# Altium schematic symbol library Power Controllers.SchLib: 19 symbols
Pins are listed as number, name and electrical type; pins without a type are passive.

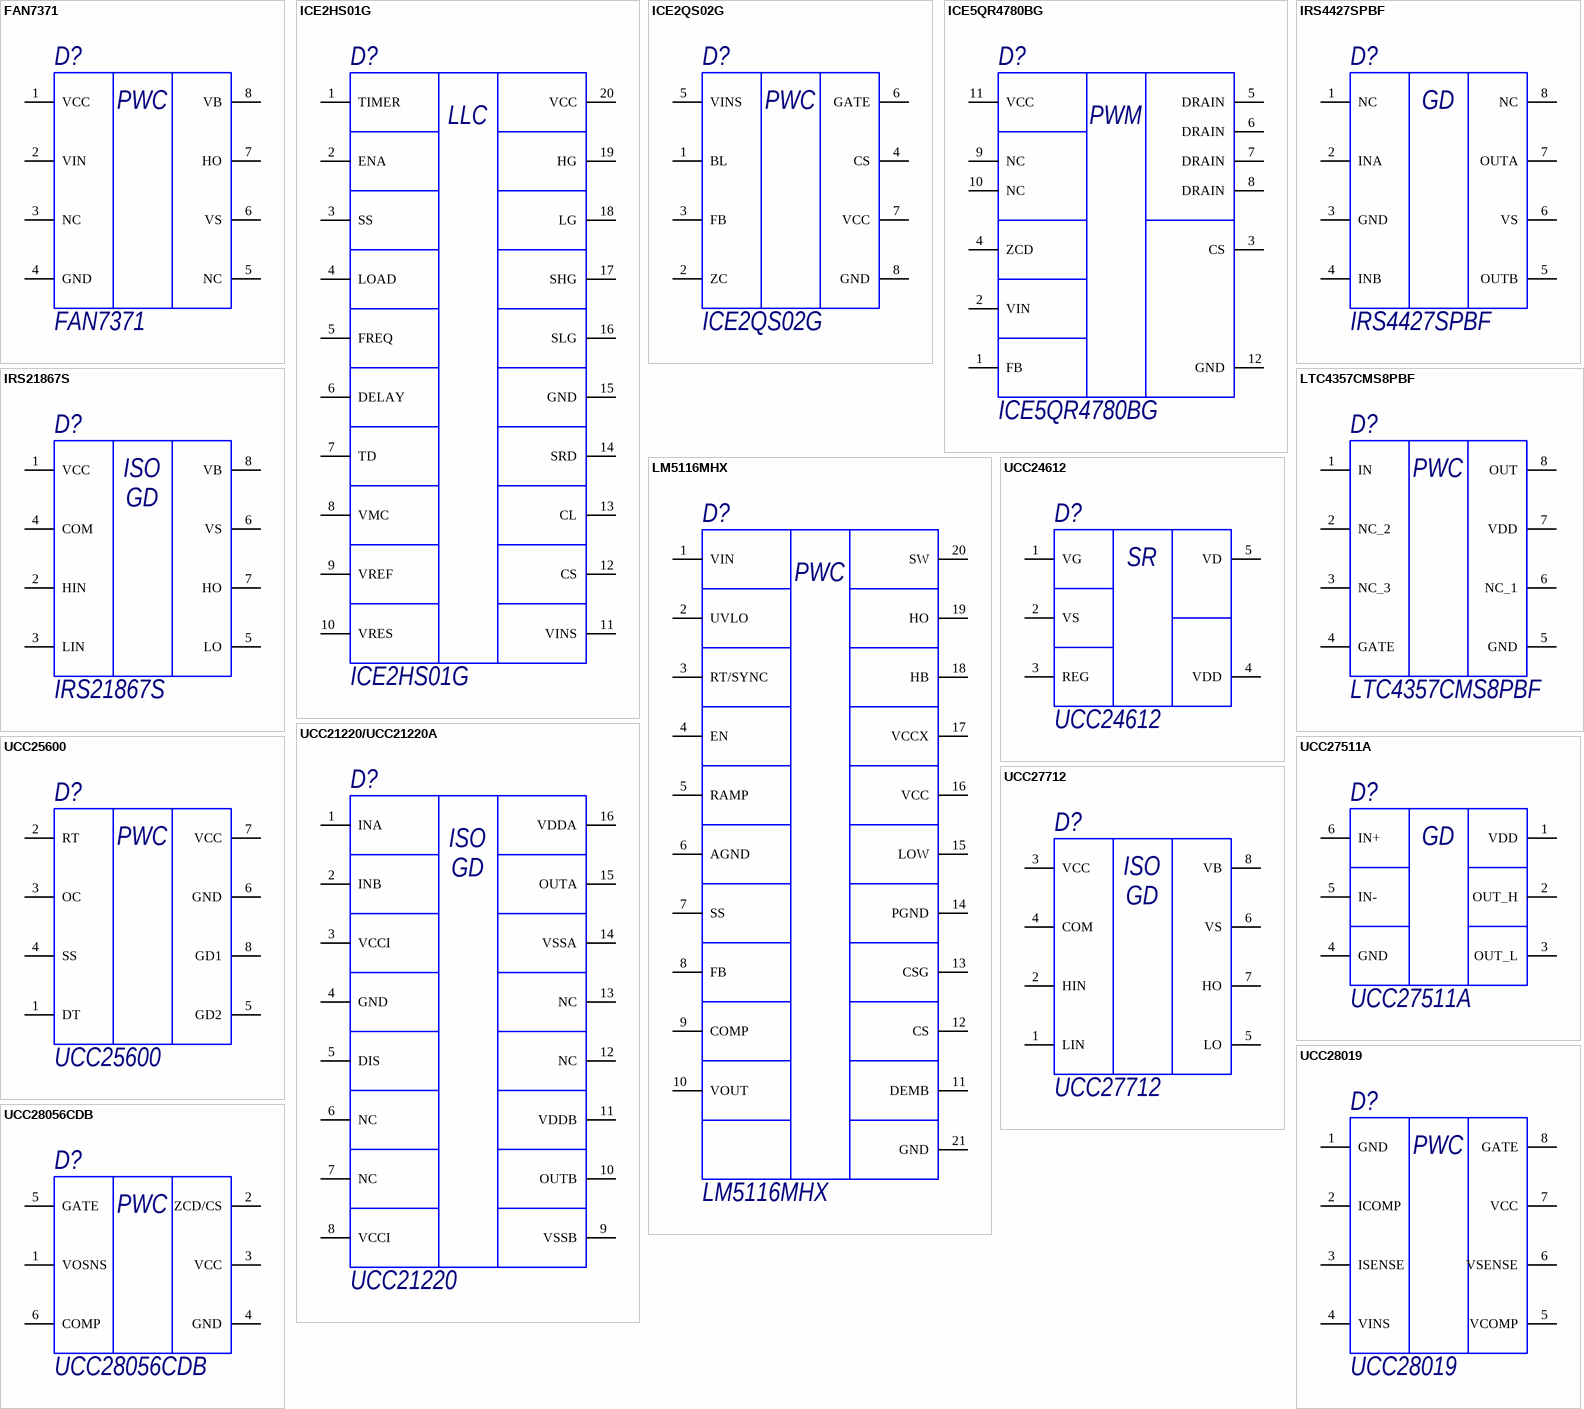
[diagram p0: symbols FAN7371 to UCC28056CDB]

## FAN7371
designator D?
Микросхема полумостовой драйвер; ComponentTypе: Микросхема контроллер PWM; ComponentDescription: =ComponentTypе+', '+Comment+', '+Package
footprint 8-SOIC (SOIC, 8-Leads, Body 4,90x3,90mm, Pitch 1,27mm, IPC Medium Density)
pins: 1 VCC, 2 VIN, 3 NC, 4 GND, 5 NC, 6 VS, 7 HO, 8 VB
text: PWC

## ICE2HS01G
designator D?
Микросхема контроллер LLC. High Performance Resonant Mode Controller / for Half-bridge LLC Resonant Converter.; ComponentDescription: =ComponentTypе+', '+Comment+', '+Package; ComponentTypе: Микросхема контроллер LLC
footprint SOIC127P1030X265-20N
pins: 1 TIMER, 2 ENA, 3 SS, 4 LOAD, 5 FREQ, 6 DELAY, 7 TD, 8 VMC, 9 VREF, 10 VRES, 11 VINS, 12 CS, 13 CL, 14 SRD, 15 GND, 16 SLG, 17 SHG, 18 LG, 19 HG, 20 VCC
1 alternate drawing of the same symbol
text: LLC

## ICE2QS02G
designator D?
Микросхема контроллер PWM; ComponentDescription: =ComponentTypе+', '+Comment+', '+Package; ComponentTypе: Микросхема контроллер PWM
footprint 8-SOIC (SOIC, 8-Leads, Body 4,90x3,90mm, Pitch 1,27mm, IPC Medium Density)
pins: 1 BL, 2 ZC, 3 FB, 4 CS, 5 VINS, 6 GATE, 7 VCC, 8 GND
text: PWC

## ICE5QR4780BG
designator D?
Микросхема контроллер PWM; ComponentTypе: Микросхема контроллер LLC; ComponentDescription: =ComponentTypе+', '+Comment+', '+Package
footprint ICE5QR0680AG (SOIC, 12-Leads, ICE5QR0680AG)
pins: 1 FB, 2 VIN, 3 CS, 4 ZCD, 5 DRAIN, 6 DRAIN, 7 DRAIN, 8 DRAIN, 9 NC, 10 NC, 11 VCC, 12 GND
text: PWM

## IRS4427SPBF
designator D?
Микросхема сдвоенный драйвер нижнего уровня; ComponentTypе: Микросхема контроллер PWM; ComponentDescription: =ComponentTypе+', '+Comment+', '+Package
footprint 8-SOIC (SOIC, 8-Leads, Body 4,90x3,90mm, Pitch 1,27mm, IPC Medium Density)
pins: 1 NC, 2 INA, 3 GND, 4 INB, 5 OUTB, 6 VS, 7 OUTA, 8 NC
text: GD

## IRS21867S
designator D?
Микросхема полумостовой драйвер; ComponentTypе: Микросхема контроллер PWM; ComponentDescription: =ComponentTypе+', '+Comment+', '+Package
footprint 8-SOIC (SOIC, 8-Leads, Body 4,90x3,90mm, Pitch 1,27mm, IPC Medium Density)
pins: 1 VCC, 2 HIN, 3 LIN, 4 COM, 5 LO, 6 VS, 7 HO, 8 VB
text: ISO; GD

## LM5116MHX
designator D?
Микросхема контроллер синхронного понижающего преобразователя.; ComponentTypе: Микросхема изолированный драйвер затвора; ComponentDescription: =ComponentTypе+', '+Comment+', '+Package
footprint HTSSOP-20
pins: 1 VIN, 2 UVLO, 3 RT/SYNC, 4 EN, 5 RAMP, 6 AGND, 7 SS, 8 FB, 9 COMP, 10 VOUT, 11 DEMB, 12 CS, 13 CSG, 14 PGND, 15 LOW, 16 VCC, 17 VCCX, 18 HB, 19 HO, 20 SW, 21 GND
text: PWC

## LTC4357CMS8PBF
designator D?
Микросхема контроллер "идеального диода"; ComponentDescription: =ComponentTypе+', '+Comment+', '+Package; ComponentTypе: Микросхема контроллер "идеального диода"
footprint MSOP-8_MS
pins: 1 IN, 2 NC_2, 3 NC_3, 4 GATE, 5 GND, 6 NC_1, 7 VDD, 8 OUT
text: PWC

## UCC21220/UCC21220A
designator D?, comment UCC21220
Микросхема изолированный драйвер затвора. UCC21220, UCC21220A 4-A/6-A, Dual-Channel Basic and Functional Isolated Gate Driver / With High Noise Immunity; ComponentDescription: =ComponentTypе+', '+Comment+', '+Package; ComponentTypе: Микросхема изолированный драйвер затвора
footprint 16-SOIC (SOIC, 16-Leads, Body 9,90x3,90mm, Pitch 1,27mm, IPC Medium Density)
pins: 1 INA, 2 INB, 3 VCCI, 4 GND, 5 DIS, 6 NC, 7 NC, 8 VCCI, 9 VSSB, 10 OUTB, 11 VDDB, 12 NC, 13 NC, 14 VSSA, 15 OUTA, 16 VDDA
text: ISO; GD

## UCC24612
designator D?
Микросхема контроллер синхронного выпрямителя; ComponentDescription: =ComponentTypе+', '+Comment+', '+Package; ComponentTypе: Микросхема контроллер синхронного выпрямителя
footprint SOT-23-5 (SOT23, 5-Leads, Body 2,90x2,30mm, Pitch 0,95mm, IPC Medium Density)
pins: 1 VG, 2 VS, 3 REG, 4 VDD, 5 VD
text: SR

## UCC25600
designator D?
Микросхема контроллер LLC; ComponentTypе: Микросхема контроллер PWM; ComponentDescription: =ComponentTypе+', '+Comment+', '+Package
footprint 8-SOIC (SOIC, 8-Leads, Body 4,90x3,90mm, Pitch 1,27mm, IPC Medium Density)
pins: 1 DT, 2 RT, 3 OC, 4 SS, 5 GD2, 6 GND, 7 VCC, 8 GD1
text: PWC

## UCC27511A
designator D?
Микросхема драйвер затвора. UCC27511A Single-Channel High-Speed Low-Side Gate Driver / With 4-A Peak Source and 8-A Peak Sink; ComponentDescription: =ComponentTypе+', '+Comment+', '+Package; ComponentTypе: Микросхема драйвер затвора
footprint SOT-23-6 (SOT23, 6-Leads, Body 2,90x2,30mm, Pitch 0,95mm, IPC Medium Density)
pins: 1 VDD, 2 OUT_H, 3 OUT_L, 4 GND, 5 IN-, 6 IN+
text: GD

## UCC27712
designator D?
Микросхема полумостовой драйвер; ComponentTypе: Микросхема контроллер PWM; ComponentDescription: =ComponentTypе+', '+Comment+', '+Package
footprint 8-SOIC (SOIC, 8-Leads, Body 4,90x3,90mm, Pitch 1,27mm, IPC Medium Density)
pins: 1 LIN, 2 HIN, 3 VCC, 4 COM, 5 LO, 6 VS, 7 HO, 8 VB
text: ISO; GD

## UCC28019
designator D?
Микросхема контроллер PFC; ComponentDescription: =ComponentTypе+', '+Comment+', '+Package; ComponentTypе: Микросхема контроллер PFC
footprint 8-SOIC (SOIC, 8-Leads, Body 4,90x3,90mm, Pitch 1,27mm, IPC Medium Density)
pins: 1 GND, 2 ICOMP, 3 ISENSE, 4 VINS, 5 VCOMP, 6 VSENSE, 7 VCC, 8 GATE
text: PWC

## UCC28056CDB
designator D?
Микросхема контроллер PWM; ComponentDescription: =ComponentTypе+', '+Comment+', '+Package; ComponentTypе: Микросхема контроллер PWM
footprint SOT-23-6 (SOT23, 6-Leads, Body 2,90x2,30mm, Pitch 0,95mm, IPC Medium Density)
pins: 1 VOSNS, 2 ZCD/CS, 3 VCC, 4 GND, 5 GATE, 6 COMP
text: PWC

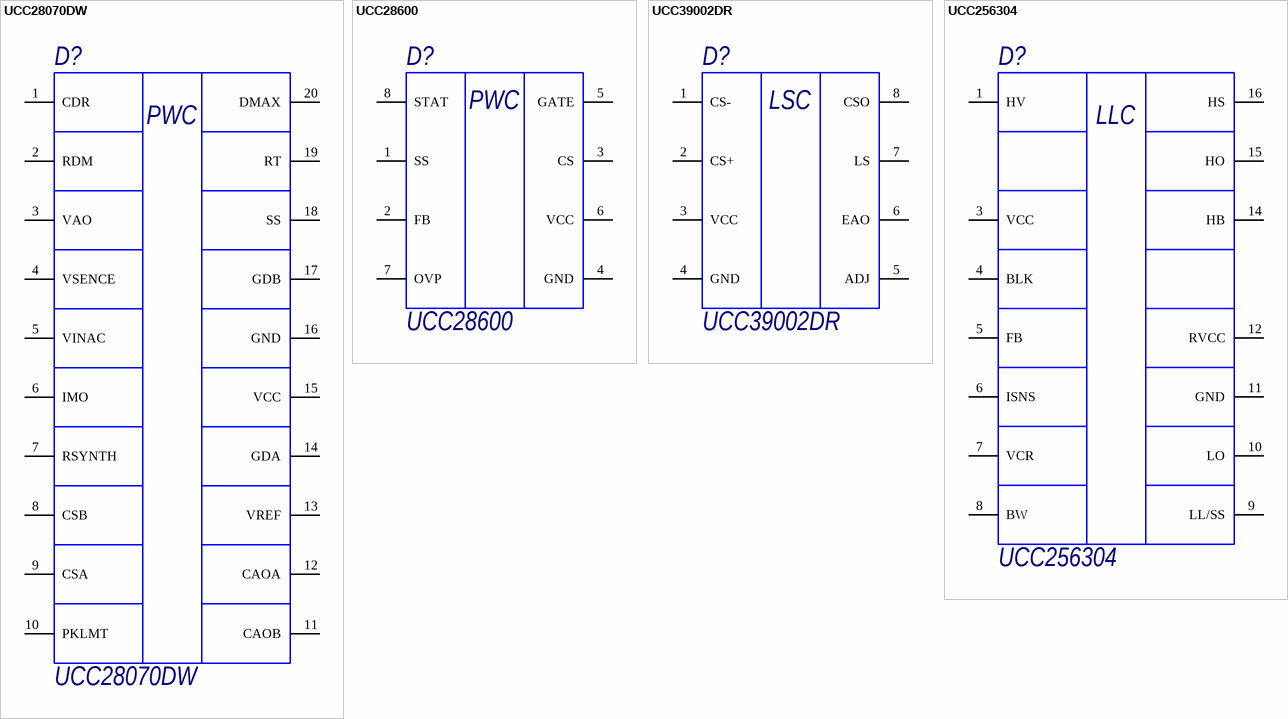
[diagram p1: symbols UCC28070DW to UCC256304]

## UCC28070DW
designator D?
Микросхема контроллер PFC; ComponentDescription: =ComponentTypе+', '+Comment+', '+Package; ComponentTypе: Микросхема контроллер PFC
footprint SOIC127P1030X265-20N
pins: 1 CDR, 2 RDM, 3 VAO, 4 VSENCE, 5 VINAC, 6 IMO, 7 RSYNTH, 8 CSB, 9 CSA, 10 PKLMT, 11 CAOB, 12 CAOA, 13 VREF, 14 GDA, 15 VCC, 16 GND, 17 GDB, 18 SS, 19 RT, 20 DMAX
text: PWC

## UCC28600
designator D?
Микросхема контроллер PWM; ComponentDescription: =ComponentTypе+', '+Comment+', '+Package; ComponentTypе: Микросхема контроллер PWM
footprint 8-SOIC (SOIC, 8-Leads, Body 4,90x3,90mm, Pitch 1,27mm, IPC Medium Density)
pins: 1 SS, 2 FB, 3 CS, 4 GND, 5 GATE, 6 VCC, 7 OVP, 8 STAT
text: PWC

## UCC39002DR
designator D?
Микросхема контроллер распределения нагрузки; ComponentTypе: Микросхема контроллер PWM; ComponentDescription: =ComponentTypе+', '+Comment+', '+Package
footprint 8-SOIC (SOIC, 8-Leads, Body 4,90x3,90mm, Pitch 1,27mm, IPC Medium Density)
pins: 1 CS-, 2 CS+, 3 VCC, 4 GND, 5 ADJ, 6 EAO, 7 LS, 8 CSO
text: LSC

## UCC256304
designator D?
Микросхема контроллер LLC; ComponentDescription: =ComponentTypе+', '+Comment+', '+Package; ComponentTypе: Микросхема контроллер LLC
footprint UCC256304 (SOIC, 16-Leads, UCC256304)
pins: 1 HV, 3 VCC, 4 BLK, 5 FB, 6 ISNS, 7 VCR, 8 BW, 9 LL/SS, 10 LO, 11 GND, 12 RVCC, 14 HB, 15 HO, 16 HS
text: LLC